# Altium integrated library Switches.IntLib: 1 symbol
Pins are listed as number, name and electrical type; pins without a type are passive.

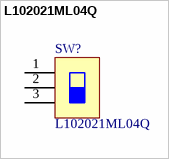
[diagram p0: symbol L102021ML04Q]

## L102021ML04Q
designator SW?
SWITCH SLIDE SPDT 4A 125V; Manufacturer: ITT C&K; Body Material: Stainless Steel,Nylon; Actuator Material: Nylon,Polyamide; Switch Function: On-On; Number of Poles: 1; Voltage Rating (DC): 28V; Max Voltage Rating (AC): 250V; Electrical Life: 10000Cycles; Number of Positions: 2; Switch Travel: 3.56mm; Actuator Type: Standard; Actuator Length: 8.51mm; Approvals: UL; Supplier 1: Digi-Key; Manufacturer Part Number: L102021ML04Q; RoHS: Yes; Category: Slide Switches; Stock 1: 1539; Pricing 1: 1=2,13000, 10=2,07200, 25=1,88440, 100=1,63700, 250=1,48352, 500=1,38122, 1000=1,27890, 2500=1,15954, 5000=1,07428 (USD); Mount: Through Hole,PCB; Contact Material: Copper,Silver; Contact Plating: Silver; Housing Material: Nylon; Min Operating Temperature: -30°C; Max Operating Temperature: 65°C; Current Rating: 4A; Orientation: Right Angle; Voltage Rating (AC): 125V; Max Current Rating: 4A; Throw Configuration: SPDT; Max Voltage Rating (DC): 125V; Packaging: Bulk; Contact Current Rating: 4A; Package Quantity: 1; Termination: PC Pins; Length: 19.3mm; Depth: 20.45mm; Radiation Hardening: No; Lead Free: Lead Free; Flammability Rating: UL94 V-2; ComponentLink1URL: https://datasheet.ciiva.com/16290/l102021ml04q-16290324.pdf?src-supplier=Future+Electronics; ComponentLink1Description: https://datasheet.ciiva.com/16290/l102021ml04q-16290324.pdf?src-supplier=Future+Electronics; ComponentLink2URL: https://datasheet.ciiva.com/8627/l-10jun14-8627375.pdf?src-supplier=Avnet; ComponentLink2Description: https://datasheet.ciiva.com/8627/l-10jun14-8627375.pdf?src-supplier=Avnet; ComponentLink3URL: https://datasheet.ciiva.com/2889/l-10jun14-2889244.pdf?src-supplier=Digi-Key; ComponentLink3Description: https://datasheet.ciiva.com/2889/l-10jun14-2889244.pdf?src-supplier=Digi-Key; Value: L102021ML04Q; Supplier Part Number 1: CKC5102-ND
footprint L102021ML04Q
pins: 1, 2, 3